# EAGLE library part MOLEX_PICO_LOCK (library 5040500491)
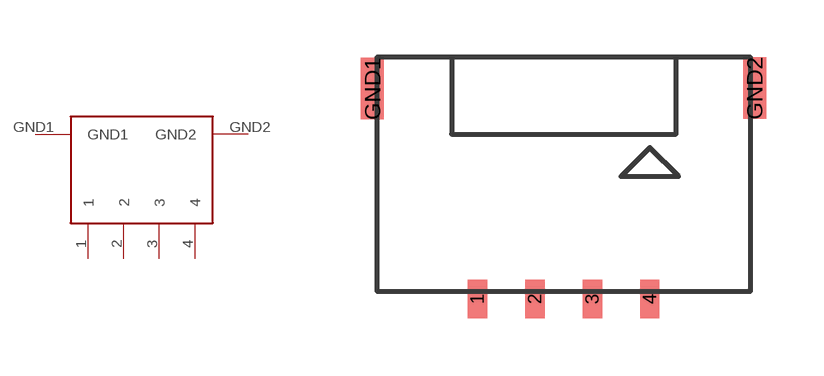
[diagram p0: symbol with the pads of 5040500791; footprint 5040500791]

Designator prefix -

## MOLEX_PICO_LOCK  [5040500791]
1  1
2  2
3  3
4  4
GND1  GND1
GND2  GND2

## Footprint 5040500791 (pad centres in mm)
smd 0.5 x 1: 1 -2.25,-0.2; 2 -0.75,-0.2; 3 0.75,-0.2; 4 2.25,-0.2
smd 0.6 x 1.6: GND1 -4.99,5.29; GND2 4.98,5.3